# EAGLE library part PSA08-11SYKWA (library Z80 clock)
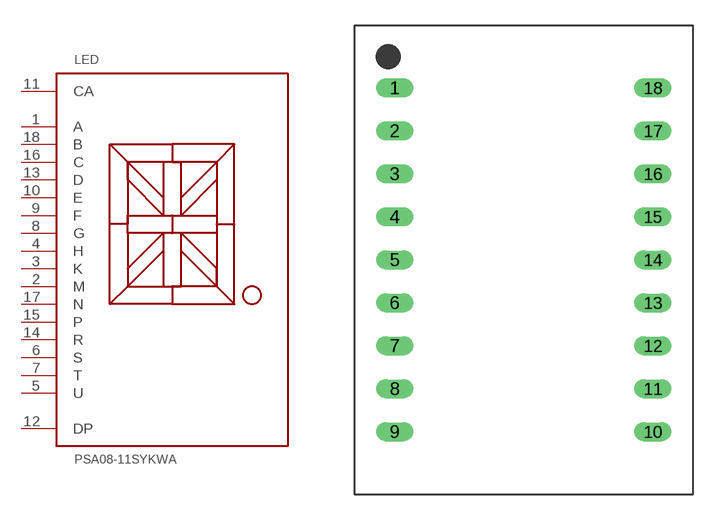
[diagram p3: symbol with the pads of PSA08-11SYKWA; footprint PSA08-11SYKWA]

Designator prefix LED

## PSA08-11SYKWA  [PSA08-11SYKWA]
1  A  in
2  M  in
3  K  in
4  H  in
5  U  in
6  S  in
7  T  in
8  G  in
9  F  in
10  E  in
11  CA  pwr
12  DP  in
13  D  in
14  R  in
15  P  in
16  C  in
17  N  in
18  B  in

## Footprint PSA08-11SYKWA (pad centres in mm)
drill 0.6 long: 1 -7.62,10.16; 2 -7.62,7.62; 3 -7.62,5.08; 4 -7.62,2.54; 5 -7.62,0; 6 -7.62,-2.54; 7 -7.62,-5.08; 8 -7.62,-7.62; 9 -7.62,-10.16; 10 7.62,-10.16; 11 7.62,-7.62; 12 7.62,-5.08; 13 7.62,-2.54; 14 7.62,0; 15 7.62,2.54; 16 7.62,5.08; 17 7.62,7.62; 18 7.62,10.16